# EAGLE library part DG2733EDQ-T1-GE3 (library DG2733EDQ-T1-GE3)
Analog Switch ICs Source: Datasheet <https://www.mouser.com/datasheet/2/427/dg2535e_dg2733e-1108706.pdf>
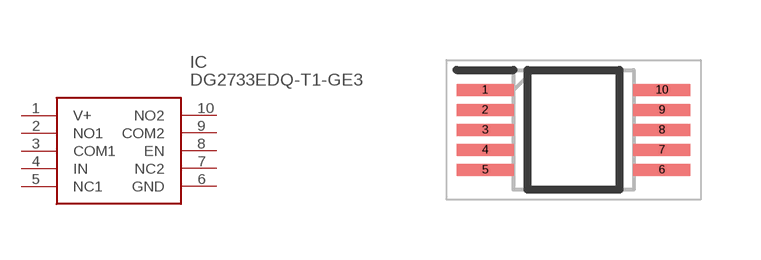
[diagram p0: symbol with the pads of SOP50P490X110-10N; footprint SOP50P490X110-10N]

Designator prefix IC

## DG2733EDQ-T1-GE3 (Arrow_Part_Number: DG2733EDQ-T1-GE3; Arrow_Price-Stock: https://www.arrow.com/en/products/dg2733edq-t1-ge3/vishay; Description: Analog Switch ICs; Height: 1.1mm; Manufacturer_Name: Vishay; Manufacturer_Part_Number: DG2733EDQ-T1-GE3; Mouser_Part_Number: 78-DG2733EDQ-T1-GE3; Mouser_Price-Stock: https://www.mouser.co.uk/ProductDetail/Vishay-Siliconix/DG2733EDQ-T1-GE3?qs=fA06TrWLL4ck7gB%2F0Ro2Ig%3D%3D)  [SOP50P490X110-10N]
1  V+
2  NO1
3  COM1
4  IN
5  NC1
6  GND
7  NC2
8  EN
9  COM2
10  NO2

## Footprint SOP50P490X110-10N (pad centres in mm)
msop 10 pin
smd 1.425 x 0.3: 1 -2.212,1; 2 -2.212,0.5; 3 -2.212,0; 4 -2.212,-0.5; 5 -2.212,-1; 6 2.212,-1; 7 2.212,-0.5; 8 2.212,0; 9 2.212,0.5; 10 2.212,1